# Altium integrated library CapEletroliticoTHL.IntLib: 1 symbol
Pins are listed as number, name and electrical type; pins without a type are passive.

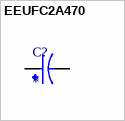
[diagram p0: symbol EEUFC2A470]

## EEUFC2A470
designator C?
47F 100V Aluminum Electrolytic Capacitors Radial, Can; MP: EEU-FC2A470; MF: Panasonic Electronic; Package: RADIAL-2 Panasonic; Availability: In Stock; SnapEDA_Link: https://www.snapeda.com/parts/EEU-FC2A470/Panasonic%20Electronic%20Components/view-part/564661/?ref=snap; Price: None; Check_prices: https://www.snapeda.com/parts/EEU-FC2A470/Panasonic%20Electronic%20Components/view-part/564661/?ref=eda; Value: *
footprint CAPPRD500W60D1000H2000
pins: N, P